# EAGLE library part ICM7555 (library FSAE Electric (Alexander Ray's conflicted copy 2016-04-02))
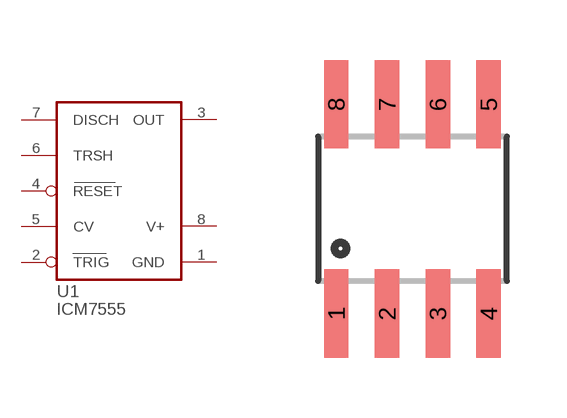
[diagram p99: symbol with the pads of SO-8; footprint SO-8]

Designator prefix U1

## ICM7555CBAZ (PARTNO: ICM7555CBAZ)  [SO-8]
1  GND  pwr
2  TRIG
3  OUT  out
4  RESET  in
5  CV
6  TRSH
7  DISCH
8  V+  pwr

## Footprint SO-8 (pad centres in mm)
smd 0.61 x 2.21: 1 -1.905,-2.616; 2 -0.635,-2.616; 3 0.635,-2.616; 4 1.905,-2.616; 5 1.905,2.616; 6 0.635,2.616; 7 -0.635,2.616; 8 -1.905,2.616